# Altium footprint library SnapEDApcb.PcbLib: 1 footprints
Each footprint in its own frame and in the unit in brackets; x right, y up, seen from the top. Pads: shape width x height; smd on the part's side, far side on the other; paste and mask are expansions set on the pad; w line width, h text height; cw(c..) or ccw(c..) is an arc to the next point about the centre after c.
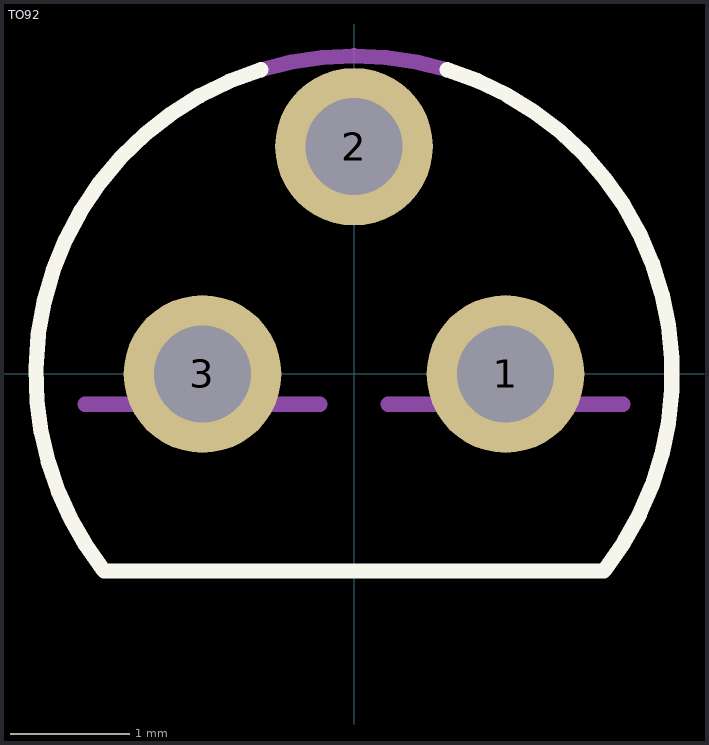
[diagram p0: the footprint, top view; thin cyan lines are the x and y axes]

## TO92 [mil]
pads (3):
  round 52 hole 32: 1(50,0) 2(0,75) 3(-50,0)
Top Overlay:
  lines w5: -82.74,-64.65 cw(c0,0) -104.6,-9.15 cw(c0,0) -30.7,100.41 ; -82.46,-65 82.46,-65 ; 30.7,100.41 cw(c0,0) 82.74,-64.64
Mechanical 13:
  lines w5: -88.73,-10 -11.27,-10 ; -30.7,100.41 cw(c0,0) 30.7,100.41 ; 11.27,-10 88.73,-10
  text "2" at -25.03,25.03 h50.06
  text "3" at -85.12,0 h50.07
  text "1" at 45.08,0 h50.08